# EAGLE library part REG_ISL80121 (library akita)
Intersil's LDO, ISL80121
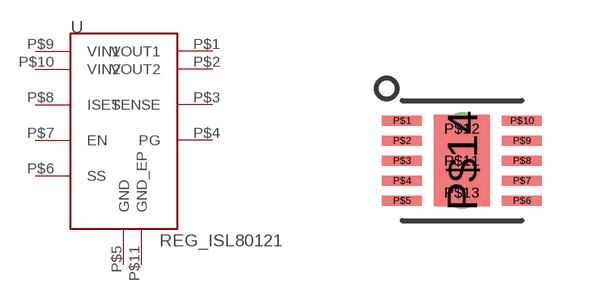
[diagram p162: symbol with the pads of DFN10_0.5MM; footprint DFN10_0.5MM]

Designator prefix U

## REG_ISL80121  [DFN10_0.5MM]
P$1  VOUT1
P$2  VOUT2
P$3  SENSE
P$4  PG
P$5  GND
P$6  SS
P$7  EN
P$8  ISET
P$9  VIN1
P$10  VIN2
P$11  GND_EP

## Footprint DFN10_0.5MM (pad centres in mm)
DFN10, 0.5mm, 3x3mm, with EPAD
smd 1 x 0.25: P$1 -1.5,1; P$2 -1.5,0.5; P$3 -1.5,0; P$4 -1.5,-0.5; P$5 -1.5,-1; P$6 1.5,-1; P$7 1.5,-0.5; P$8 1.5,0; P$9 1.5,0.5; P$10 1.5,1
drill 0.3 pad 0.406: P$11 0,0; P$12 0,0.8; P$13 0,-0.8
smd 1.4 x 2.3: P$14 0,0